# EAGLE library part LM2623 (library OpenSpace)
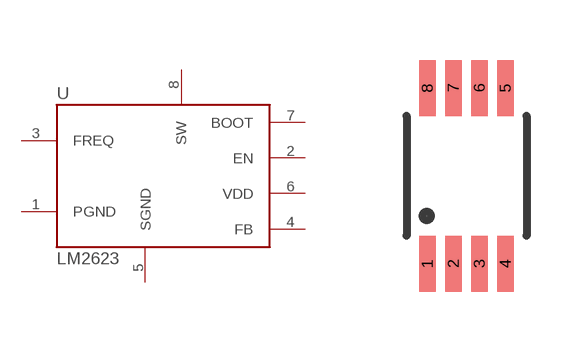
[diagram p0: symbol with the pads of MSOP-8; footprint MSOP-8]

Designator prefix -

## LM2623  [MSOP-8]
1  PGND
2  EN
3  FREQ
4  FB
5  SGND
6  VDD
7  BOOT
8  SW

## Footprint MSOP-8 (pad centres in mm)
smd 0.41 x 1.4: 1 -0.975,-2.2; 2 -0.325,-2.2; 3 0.325,-2.2; 4 0.975,-2.2; 5 0.975,2.2; 6 0.325,2.2; 7 -0.325,2.2; 8 -0.975,2.2